# EAGLE library part ESP8266HUZZAH (library regn)
Adafruit ESP8226 Huzzah 80 MHz microcontroller with WiFi front-end, with TCP/IP stack and DNS support. Contains onboard 500mA 3.3V regulator.
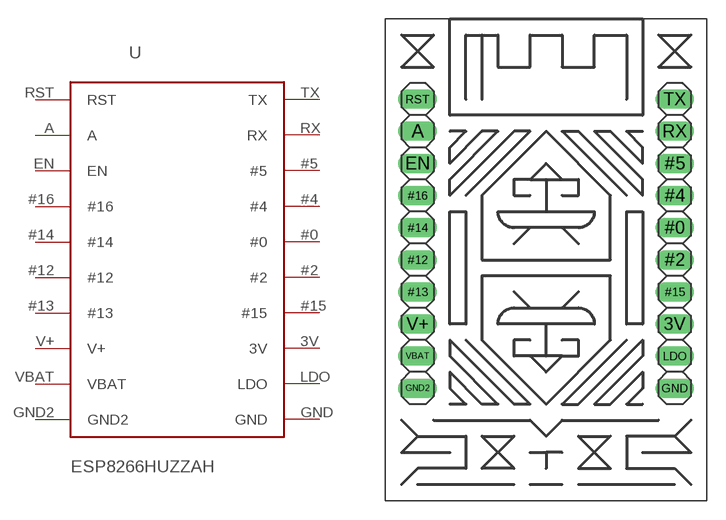
[diagram p1: symbol with the pads of ESP8266HUZZAH; footprint ESP8266HUZZAH]

Designator prefix -

## ESP8266HUZZAH  [ESP8266HUZZAH]
3V  3V
#0  #0
#2  #2
#4  #4
#5  #5
#12  #12
#13  #13
#14  #14
#15  #15
#16  #16
A  A
EN  EN
GND  GND
GND2  GND2
LDO  LDO
RST  RST
RX  RX
TX  TX
V+  V+  pwr
VBAT  VBAT  pwr

## Footprint ESP8266HUZZAH (pad centres in mm)
ESP8266 Huzzah
drill 1.016 long: 3V 20.32,-6.35; #0 20.32,1.27; #2 20.32,-1.27; #4 20.32,3.81; #5 20.32,6.35; #12 0,-1.27; #13 0,-3.81; #14 0,1.27; #15 20.32,-3.81; #16 0,3.81; A 0,8.89; EN 0,6.35; GND 20.32,-11.43; GND2 0,-11.43; LDO 20.32,-8.89; RST 0,11.43; RX 20.32,8.89; TX 20.32,11.43; V+ 0,-6.35; VBAT 0,-8.89